# Altium integrated library FDN335N.IntLib: 1 symbol
Pins are listed as number, name and electrical type; pins without a type are passive.

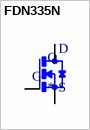
[diagram p0: symbol FDN335N]

## FDN335N
designator Q
N-Channel 20V 1.7A _Ta_ 500mW _Ta_ Surface Mount SuperSOT-3; MP: FDN335N; MF: ON Semiconductor; Value: *; Digi-Key_Purchase_URL: https://www.digikey.com.ar/product-detail/en/on-semiconductor/FDN335N/FDN335NCT-ND/965601?utm_source=snapeda&utm_medium=aggregator&utm_campaign=symbol; Package: SC-59 ON Semiconductor; SnapEDA_Link: https://www.snapeda.com/parts/FDN335N/ON%20Semiconductor/view-part/1760117/?ref=snap; Digi-Key_Part_Number: FDN335NCT-ND
footprint SSOT-3
pins: 1 G, 2 S, 3 D